# EAGLE library part TPS2549 (library borkedlabs-powerics)
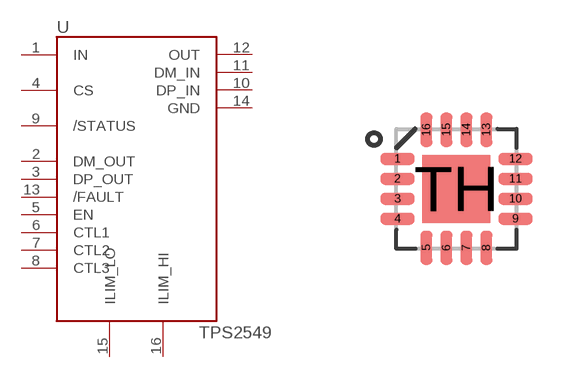
[diagram p14: symbol with the pads of QFN16-3X3-TI-RTE; footprint QFN16-3X3-TI-RTE]

Designator prefix U

## TPS2549RTE (MANU: TI; MPN: TPS2549RTE; PACKAGE: WQFN-16)  [QFN16-3X3-TI-RTE]
1  IN
2  DM_OUT
3  DP_OUT
4  CS
5  EN
6  CTL1
7  CTL2
8  CTL3
9  /STATUS
10  DP_IN
11  DM_IN
12  OUT
13  /FAULT
14  GND
15  ILIM_LO
16  ILIM_HI

## Footprint QFN16-3X3-TI-RTE (pad centres in mm)
3x3 mm
smd 0.85 x 0.3: 1 -1.475,0.75; 2 -1.475,0.25; 3 -1.475,-0.25; 4 -1.475,-0.75; 9 1.475,-0.75; 10 1.475,-0.25; 11 1.475,0.25; 12 1.475,0.75
smd 0.3 x 0.85: 5 -0.75,-1.475; 6 -0.25,-1.475; 7 0.25,-1.475; 8 0.75,-1.475; 13 0.75,1.475; 14 0.25,1.475; 15 -0.25,1.475; 16 -0.75,1.475
smd 1.7 x 1.7: TH 0,0